# Altium schematic symbol library RF Module.SchLib: 18 symbols
Pins are listed as number, name and electrical type; pins without a type are passive.

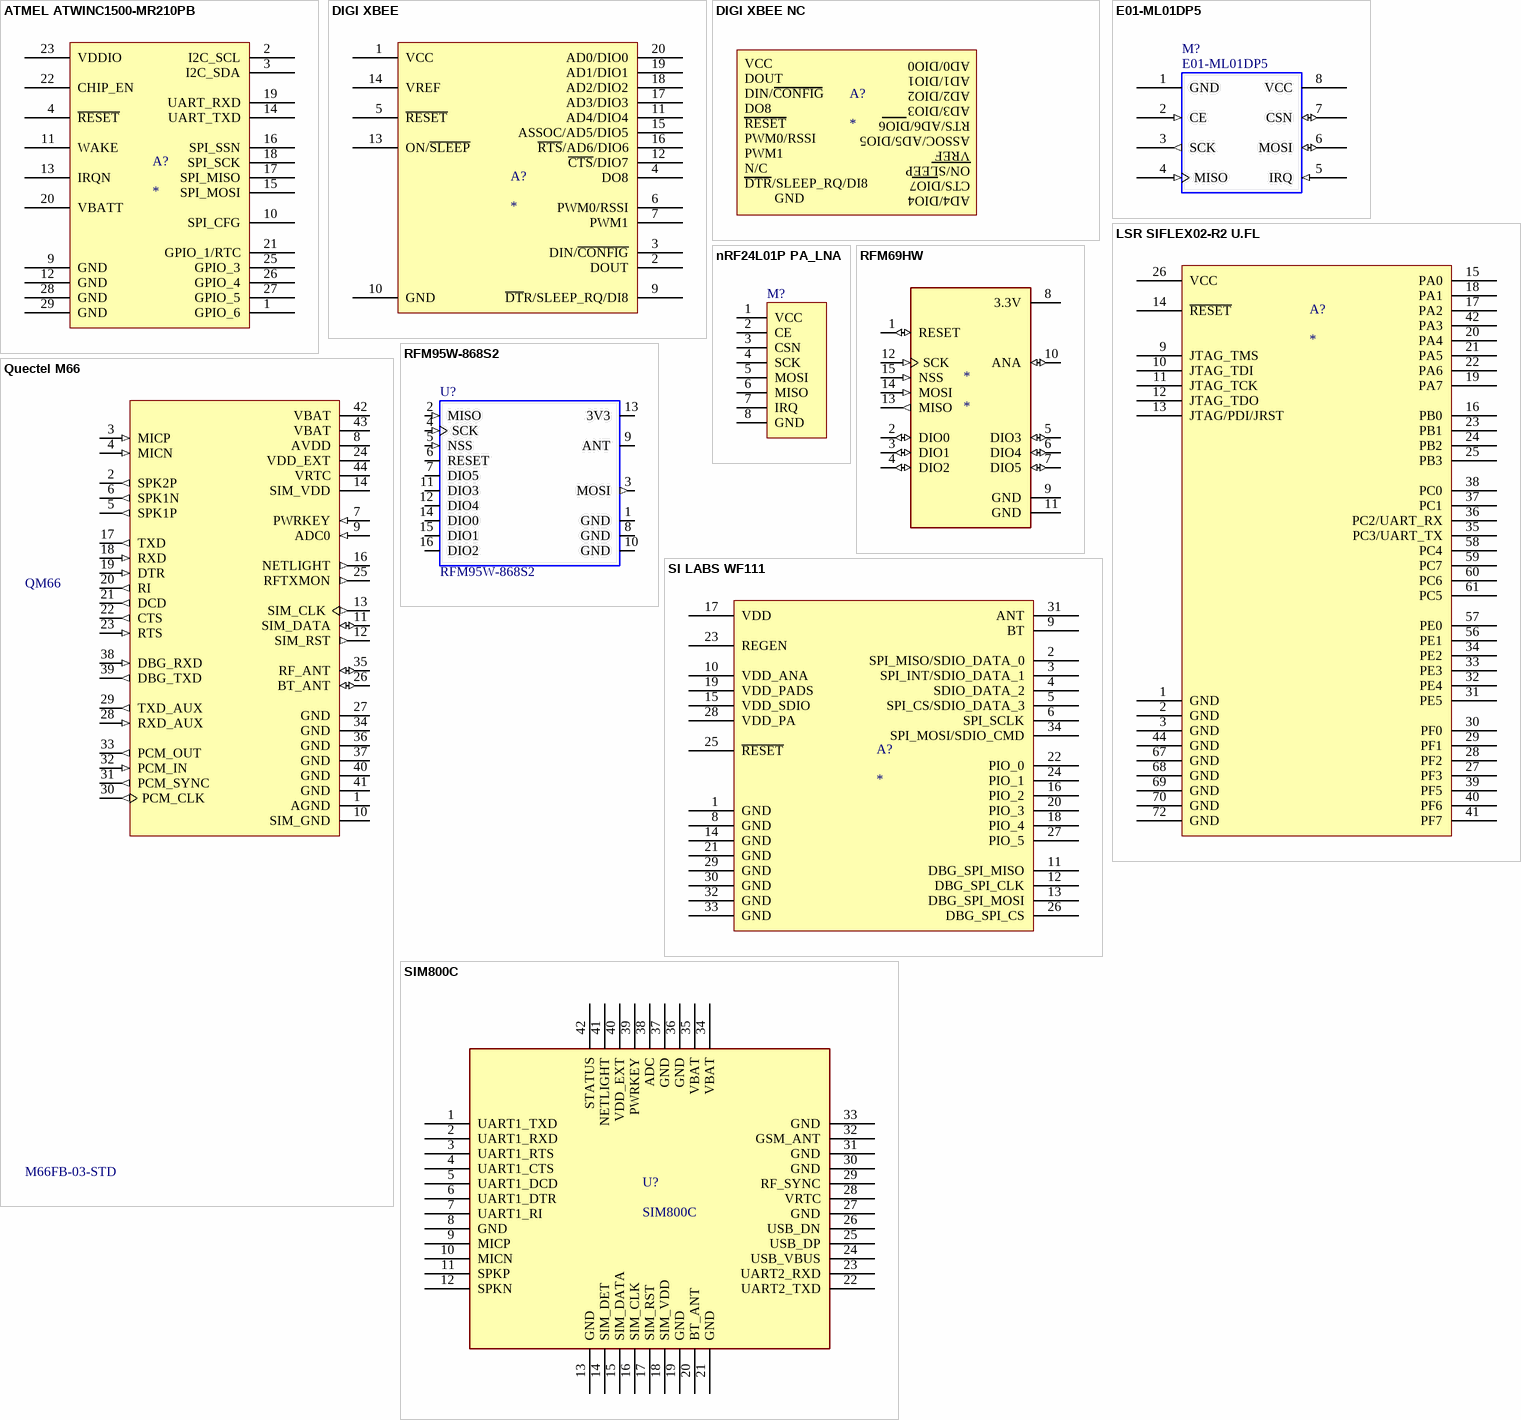
[diagram p0: symbols ATMEL ATWINC1500-MR210PB to SIM800C]

## ATMEL ATWINC1500-MR210PB
designator A?
pins: 1 GPIO_6, 2 I2C_SCL, 3 I2C_SDA, 4 ~{RESET}, 9 GND, 10 SPI_CFG, 11 WAKE, 12 GND, 13 IRQN, 14 UART_TXD, 15 SPI_MOSI, 16 SPI_SSN, 17 SPI_MISO, 18 SPI_SCK, 19 UART_RXD, 20 VBATT, 21 GPIO_1/RTC, 22 CHIP_EN, 23 VDDIO, 25 GPIO_3, 26 GPIO_4, 27 GPIO_5, 28 GND, 29 GND

## DIGI XBEE
designator A?
pins: 1 VCC, 2 DOUT, 3 DIN/~{CONFIG}, 4 DO8, 5 ~{RESET}, 6 PWM0/RSSI, 7 PWM1, 9 ~{DT}R/SLEEP_RQ/DI8, 10 GND, 11 AD4/DIO4, 12 ~{CTS}/DIO7, 13 ON/~{SLEEP}, 14 VREF, 15 ASSOC/AD5/DIO5, 16 ~{RTS}/AD6/DIO6, 17 AD3/DIO3, 18 AD2/DIO2, 19 AD1/DIO1, 20 AD0/DIO0

## DIGI XBEE NC
designator A?
text: AD0/DIO0; VCC; AD1/DIO1; DOUT; AD2/DIO2; DIN/CONFIG; AD3/DIO3; DO8; RTS/AD6/DIO6; RESET; ASSOC/AD5/DIO5; PWM0/RSSI; VREF; PWM1; ON/SLEEP; N/C; CTS/DIO7; DTR/SLEEP_RQ/DI8; AD4/DIO4; GND

## E01-ML01DP5
designator M?
footprint E01-ML01DP5
pins: 1 GND (power), 2 CE (in), 3 SCK (out), 4 MISO (in), 5 IRQ (in), 6 MOSI (io), 7 CSN (io), 8 VCC (power)

## LSR SIFLEX02-R2 U.FL
designator A?
pins: 1 GND, 2 GND, 3 GND, 9 JTAG_TMS, 10 JTAG_TDI, 11 JTAG_TCK, 12 JTAG_TDO, 13 JTAG/PDI/JRST, 14 ~{RESET}, 15 PA0, 16 PB0, 17 PA2, 18 PA1, 19 PA7, 20 PA4, 21 PA5, 22 PA6, 23 PB1, 24 PB2, 25 PB3, 26 VCC, 27 PF3, 28 PF2, 29 PF1, 30 PF0, 31 PE5, 32 PE4, 33 PE3, 34 PE2, 35 PC3/UART_TX, 36 PC2/UART_RX, 37 PC1, 38 PC0, 39 PF5, 40 PF6, 41 PF7, 42 PA3, 44 GND, 56 PE1, 57 PE0, 58 PC4, 59 PC7, 60 PC6, 61 PC5, 67 GND, 68 GND, 69 GND, 70 GND, 72 GND

## nRF24L01P PA_LNA
designator M?
footprint NRF24L01P PA_LNA
pins: 1 VCC, 2 CE, 3 CSN, 4 SCK, 5 MOSI, 6 MISO, 7 IRQ, 8 GND

## Quectel M66
designator QM66, comment M66FB-03-STD
MF: Quectel; Package: None; MP: M66FB-03-STD; Availability: Unavailable; Price: None; SnapEDA_Link: https://www.snapeda.com/parts/M66FB-03-STD/Quectel/view-part/?ref=snap; Value: *
footprint Quectel M66FB
pins: 1 AGND (power), 2 SPK2P (out), 3 MICP (in), 4 MICN (in), 5 SPK1P (out), 6 SPK1N (out), 7 PWRKEY (in), 8 AVDD (power), 9 ADC0 (in), 10 SIM_GND (power), 11 SIM_DATA (io), 12 SIM_RST (out), 13 SIM_CLK (out), 14 SIM_VDD (power), 16 NETLIGHT (out), 17 TXD (out), 18 RXD (in), 19 DTR (in), 20 RI (out), 21 DCD (out), 22 CTS (out), 23 RTS (in), 24 VDD_EXT (power), 25 RFTXMON (out), 26 BT_ANT (io), 27 GND (power), 28 RXD_AUX (in), 29 TXD_AUX (out), 30 PCM_CLK (out), 31 PCM_SYNC (out), 32 PCM_IN (in), 33 PCM_OUT (out), 34 GND (power), 35 RF_ANT (io), 36 GND (power), 37 GND (power), 38 DBG_RXD (in), 39 DBG_TXD (out), 40 GND (power), 41 GND (power), 42 VBAT (power), 43 VBAT (power), 44 VRTC (power)

## RFM69HW
designator *
footprint RFM69HW
pins: 1 RESET (io), 2 DIO0 (io), 3 DIO1 (io), 4 DIO2 (io), 5 DIO3 (io), 6 DIO4 (io), 7 DIO5 (io), 8 3.3V (power), 9 GND (power), 10 ANA (io), 11 GND (power), 12 SCK (in), 13 MISO (out), 14 MOSI (in), 15 NSS (in)

## RFM95W-868S2
designator U?
General ISM < 1GHz LoRa Transceiver Module 868MHz Antenna Not Included Surface Mount; MF: RF; Availability: Unavailable; Price: None; Package: SMD-16 Hope Microelectronics; MP: RFM95W-868S2; Value: *; SnapEDA_Link: https://www.snapeda.com/parts/RFM95W-868S2/RF%20Solutions/view-part/329180/?ref=snap
footprint XCVR_RFM95W-868S2
pins: 1 GND (power), 2 MISO (in), 3 MOSI (out), 4 SCK (in), 5 NSS (in), 6 RESET (io), 7 DIO5 (io), 8 GND (power), 9 ANT, 10 GND (power), 11 DIO3 (io), 12 DIO4 (io), 13 3V3 (power), 14 DIO0 (io), 15 DIO1 (io), 16 DIO2 (io)

## SI LABS WF111
designator A?
pins: 1 GND, 2 SPI_MISO/SDIO_DATA_0, 3 SPI_INT/SDIO_DATA_1, 4 SDIO_DATA_2, 5 SPI_CS/SDIO_DATA_3, 6 SPI_SCLK, 8 GND, 9 BT, 10 VDD_ANA, 11 DBG_SPI_MISO, 12 DBG_SPI_CLK, 13 DBG_SPI_MOSI, 14 GND, 15 VDD_SDIO, 16 PIO_2, 17 VDD, 18 PIO_4, 19 VDD_PADS, 20 PIO_3, 21 GND, 22 PIO_0, 23 REGEN, 24 PIO_1, 25 ~{RESET}, 26 DBG_SPI_CS, 27 PIO_5, 28 VDD_PA, 29 GND, 30 GND, 31 ANT, 32 GND, 33 GND, 34 SPI_MOSI/SDIO_CMD

## SIM800C
designator U?
footprint SIM800C
pins: 1 UART1_TXD, 2 UART1_RXD, 3 UART1_RTS, 4 UART1_CTS, 5 UART1_DCD, 6 UART1_DTR, 7 UART1_RI, 8 GND, 9 MICP, 10 MICN, 11 SPKP, 12 SPKN, 13 GND, 14 SIM_DET, 15 SIM_DATA, 16 SIM_CLK, 17 SIM_RST, 18 SIM_VDD, 19 GND, 20 BT_ANT, 21 GND, 22 UART2_TXD, 23 UART2_RXD, 24 USB_VBUS, 25 USB_DP, 26 USB_DN, 27 GND, 28 VRTC, 29 RF_SYNC, 30 GND, 31 GND, 32 GSM_ANT, 33 GND, 34 VBAT, 35 VBAT, 36 GND, 37 GND, 38 ADC, 39 PWRKEY, 40 VDD_EXT, 41 NETLIGHT, 42 STATUS

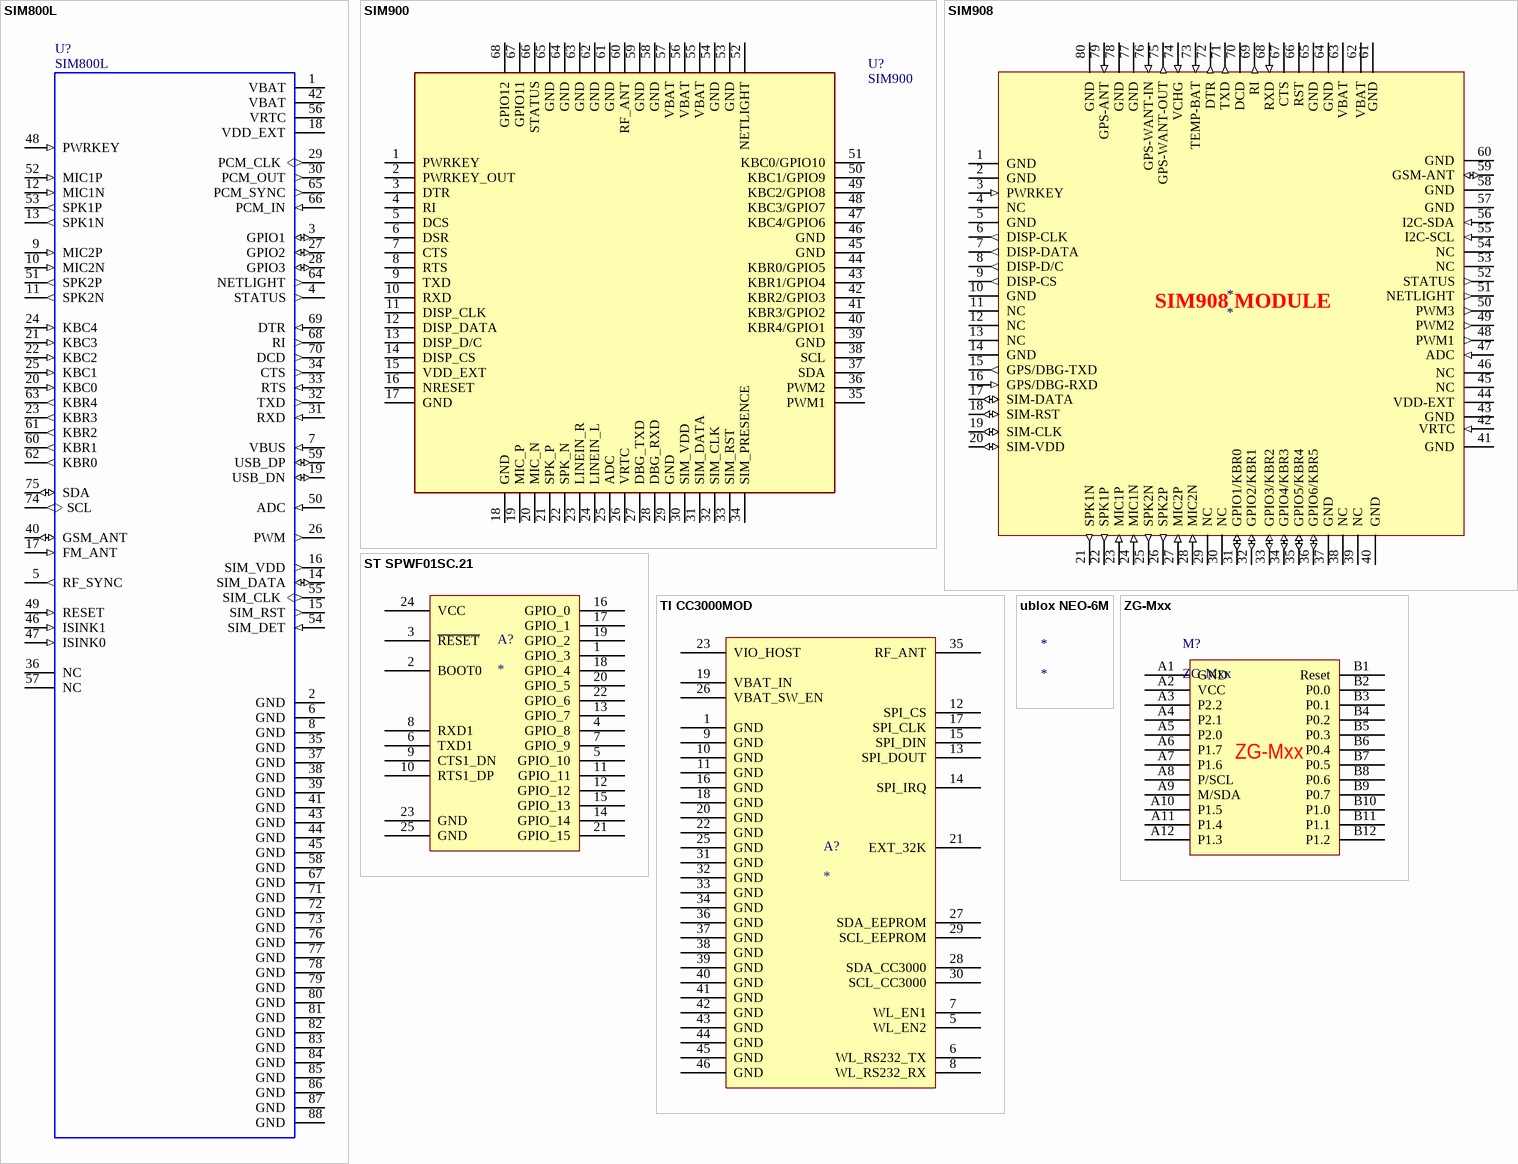
[diagram p1: symbols SIM800L to ZG-Mxx]

## SIM800L
designator U?
footprint SIM800L_SMD
pins: 1 VBAT (power), 2 GND (power), 3 GPIO1 (io), 4 STATUS (out), 5 RF_SYNC (out), 6 GND (power), 7 VBUS (in), 8 GND (power), 9 MIC2P (in), 10 MIC2N (in), 11 SPK2N (out), 12 MIC1N (in), 13 SPK1N (out), 14 SIM_DATA (io), 15 SIM_RST (out), 16 SIM_VDD (out), 17 FM_ANT (in), 18 VDD_EXT (power), 19 USB_DN (io), 20 KBC0 (in), 21 KBC3 (in), 22 KBC2 (in), 23 KBR3 (out), 24 KBC4 (in), 25 KBC1 (in), 26 PWM (out), 27 GPIO2 (io), 28 GPIO3 (io), 29 PCM_CLK (out), 30 PCM_OUT (out), 31 RXD (in), 32 TXD (out), 33 RTS (in), 34 CTS (out), 35 GND (power), 36 NC, 37 GND (power), 38 GND (power), 39 GND (power), 40 GSM_ANT (io), 41 GND (power), 42 VBAT (power), 43 GND (power), 44 GND (power), 45 GND (power), 46 ISINK1 (in), 47 ISINK0 (in), 48 PWRKEY (in), 49 RESET (in), 50 ADC (in), 51 SPK2P (out), 52 MIC1P (in), 53 SPK1P (out), 54 SIM_DET (in), 55 SIM_CLK (out), 56 VRTC (power), 57 NC, 58 GND (power), 59 USB_DP (io), 60 KBR1 (out), 61 KBR2 (out), 62 KBR0 (out), 63 KBR4 (out), 64 NETLIGHT (out), 65 PCM_SYNC (out), 66 PCM_IN (in), 67 GND (power), 68 RI (out), 69 DTR (in), 70 DCD (out), 71 GND (power), 72 GND (power), 73 GND (power), 74 SCL (out), 75 SDA (io), 76 GND (power), 77 GND (power), 78 GND (power), 79 GND (power), 80 GND (power), 81 GND (power), 82 GND (power), 83 GND (power), 84 GND (power), 85 GND (power), 86 GND (power), 87 GND (power), 88 GND (power)

## SIM900
designator U?
footprint SIM900
pins: 1 PWRKEY, 2 PWRKEY_OUT, 3 DTR, 4 RI, 5 DCS, 6 DSR, 7 CTS, 8 RTS, 9 TXD, 10 RXD, 11 DISP_CLK, 12 DISP_DATA, 13 DISP_D/C, 14 DISP_CS, 15 VDD_EXT, 16 NRESET, 17 GND, 18 GND, 19 MIC_P, 20 MIC_N, 21 SPK_P, 22 SPK_N, 23 LINEIN_R, 24 LINEIN_L, 25 ADC, 26 VRTC, 27 DBG_TXD, 28 DBG_RXD, 29 GND, 30 SIM_VDD, 31 SIM_DATA, 32 SIM_CLK, 33 SIM_RST, 34 SIM_PRESENCE, 35 PWM1, 36 PWM2, 37 SDA, 38 SCL, 39 GND, 40 KBR4/GPIO1, 41 KBR3/GPIO2, 42 KBR2/GPIO3, 43 KBR1/GPIO4, 44 KBR0/GPIO5, 45 GND, 46 GND, 47 KBC4/GPIO6, 48 KBC3/GPIO7, 49 KBC2/GPIO8, 50 KBC1/GPIO9, 51 KBC0/GPIO10, 52 NETLIGHT, 53 GND, 54 GND, 55 VBAT, 56 VBAT, 57 VBAT, 58 GND, 59 GND, 60 RF_ANT, 61 GND, 62 GND, 63 GND, 64 GND, 65 GND, 66 STATUS, 67 GPIO11, 68 GPIO12

## SIM908
designator *
footprint SIM908
pins: 1 GND (power), 2 GND (power), 3 PWRKEY (in), 4 NC, 5 GND (power), 6 DISP-CLK (out), 7 DISP-DATA (out), 8 DISP-D/C (out), 9 DISP-CS (out), 10 GND (power), 11 NC, 12 NC, 13 NC, 14 GND (power), 15 GPS/DBG-TXD (out), 16 GPS/DBG-RXD (in), 17 SIM-DATA (io), 18 SIM-RST (io), 19 SIM-CLK (io), 20 SIM-VDD (io), 21 SPK1N (out), 22 SPK1P (out), 23 MIC1P (in), 24 MIC1N (in), 25 SPK2N (out), 26 SPK2P (out), 27 MIC2P (in), 28 MIC2N (in), 29 NC, 30 NC, 31 GPIO1/KBR0 (io), 32 GPIO2/KBR1 (io), 33 GPIO3/KBR2 (io), 34 GPIO4/KBR3 (io), 35 GPIO5/KBR4 (io), 36 GPIO6/KBR5 (io), 37 GND (power), 38 NC, 39 NC, 40 GND, 41 GND (power), 42 VRTC (in), 43 GND (power), 44 VDD-EXT (power), 45 NC, 46 NC, 47 ADC (in), 48 PWM1 (out), 49 PWM2 (out), 50 PWM3 (out), 51 NETLIGHT (out), 52 STATUS (out), 53 NC, 54 NC, 55 I2C-SCL (in), 56 I2C-SDA (in), 57 GND (power), 58 GND (power), 59 GSM-ANT (io), 60 GND (power), 61 GND (power), 62 VBAT (power), 63 VBAT (power), 64 GND (power), 65 GND (power), 66 RST (power), 67 CTS (power), 68 RXD (in), 69 RI (out), 70 DCD (hiz), 71 TXD (out), 72 DTR (out), 73 TEMP-BAT (in), 74 VCHG (in), 75 GPS-WANT-OUT (out), 76 GPS-WANT-IN (in), 77 GND (power), 78 GND (power), 79 GPS-ANT (in), 80 GND (power)
text: SIM908 MODULE

## ST SPWF01SC.21
designator A?
pins: 1 GPIO_3, 2 BOOT0, 3 ~{RESET}, 4 GPIO_8, 5 GPIO_10, 6 TXD1, 7 GPIO_9, 8 RXD1, 9 CTS1_DN, 10 RTS1_DP, 11 GPIO_11, 12 GPIO_12, 13 GPIO_7, 14 GPIO_14, 15 GPIO_13, 16 GPIO_0, 17 GPIO_1, 18 GPIO_4, 19 GPIO_2, 20 GPIO_5, 21 GPIO_15, 22 GPIO_6, 23 GND, 24 VCC, 25 GND

## TI CC3000MOD
designator A?
pins: 1 GND, 5 WL_EN2, 6 WL_RS232_TX, 7 WL_EN1, 8 WL_RS232_RX, 9 GND, 10 GND, 11 GND, 12 SPI_CS, 13 SPI_DOUT, 14 SPI_IRQ, 15 SPI_DIN, 16 GND, 17 SPI_CLK, 18 GND, 19 VBAT_IN, 20 GND, 21 EXT_32K, 22 GND, 23 VIO_HOST, 25 GND, 26 VBAT_SW_EN, 27 SDA_EEPROM, 28 SDA_CC3000, 29 SCL_EEPROM, 30 SCL_CC3000, 31 GND, 32 GND, 33 GND, 34 GND, 35 RF_ANT, 36 GND, 37 GND, 38 GND, 39 GND, 40 GND, 41 GND, 42 GND, 43 GND, 44 GND, 45 GND, 46 GND, GND 40 hidden to Passive

## ublox NEO-6M
designator *
footprint ublox NEO-6M (Footprint not found)

## ZG-Mxx
designator M?
footprint ZG-M0
footprint ZG-M0
footprint ZG-M1/1E
pins: A1 GND, A2 VCC, A3 P2.2, A4 P2.1, A5 P2.0, A6 P1.7, A7 P1.6, A8 P/SCL, A9 M/SDA, A10 P1.5, A11 P1.4, A12 P1.3, B1 Reset, B2 P0.0, B3 P0.1, B4 P0.2, B5 P0.3, B6 P0.4, B7 P0.5, B8 P0.6, B9 P0.7, B10 P1.0, B11 P1.1, B12 P1.2